# EAGLE library part 74AC08SC (library takeyama)
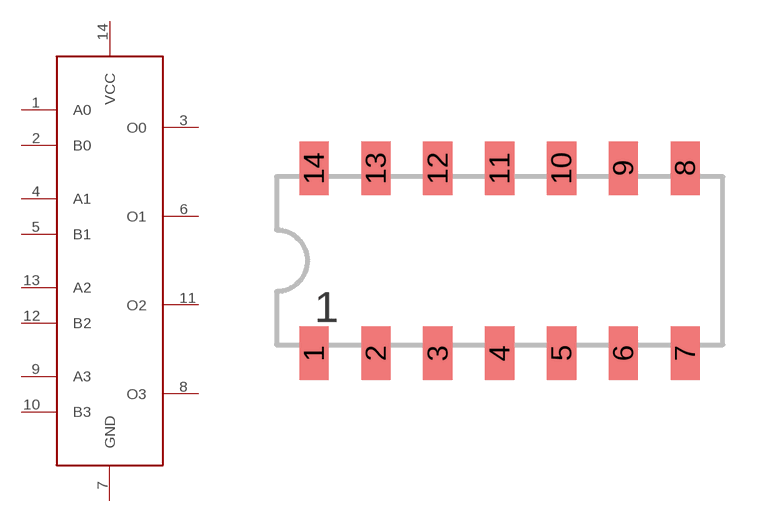
[diagram p13: symbol with the pads of DIP14; footprint DIP14]

Designator prefix -

## 74AC08SC  [DIP14]
1  A0
2  B0
3  O0
4  A1
5  B1
6  O1
7  GND
8  O3
9  A3
10  B3
11  O2
12  B2
13  A2
14  VCC

## Footprint DIP14 (pad centres in mm)
SMD DIL14 dual in line package
smd 1.2 x 2.2: 1 -7.62,-3.8; 2 -5.08,-3.8; 3 -2.54,-3.8; 4 0,-3.8; 5 2.54,-3.8; 6 5.08,-3.8; 7 7.62,-3.8; 8 7.62,3.8; 9 5.08,3.8; 10 2.54,3.8; 11 0,3.8; 12 -2.54,3.8; 13 -5.08,3.8; 14 -7.62,3.8